# Altium schematic symbol library Dummy Parts.SchLib: 4 symbols
Pins are listed as number, name and electrical type; pins without a type are passive.

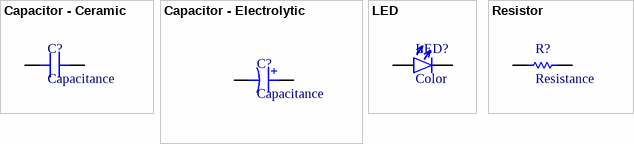
[diagram p0: symbols Capacitor - Ceramic to Resistor]

## Capacitor - Ceramic
designator C?, comment Capacitance
Value: Capacitance
footprint 0805 (Dummy 0805)
pins: 1, 2

## Capacitor - Electrolytic
designator C?, comment Capacitance
Value: Capacitance
footprint 0805 (Dummy 0805)
pins: 1, 2
text: +

## LED
designator LED?, comment Color
Color: Color
footprint 0805 (Dummy 0805)
pins: 1, 2

## Resistor
designator R?, comment Resistance
Value: Resistance
footprint 0805 (Dummy 0805)
pins: 1, 2